# EAGLE library part 171021501 (library WPME-VDRM)
MagI³C-VDRM Variable Step Down Regulator Module Characteristics Low conducted and radiated EMI (compliant to EN55022 class B / CISPR-22) TO263-7EP Leaded package for easy manufacturing and prototyping Simple layout Wide input voltage range for input transient capability Support ambient temperatures up to + 105 °C 2 solder cycles supported QFN Low profile package Simple application circuit (only 4 external components required) Optional multiple features (adj.frequency, adj.softstart, power good, sequencing, tracking, synchronization to external clock, adjustable undervoltage lockout) Wide input voltage range QFN41 type 3 solder cycles supported Applications Point-of-Load DC-DC applications from 24V, 18V, 15V, 12V, 9V, 5V industrial rails Industrial, Test & Measurement, Medical applications System power supplies I/O interface power supply DSPs, FPGAs, MCUs and MPUs supply High density distributed power systems Telecommunication applications <https://www.we-online.com/components/media/o33388v209%20Family-MagicVDRM-171010601-171021501.jpg> Details see: www.we-online.com/en/components/products/MAGIC-VDRM <www.we-online.com/catalog/MAGIC-VDRM/?utm_source=eagle_model&utm_medium=description_link&utm_campaign=eisos_eagle> Updated by Ella 2025-04-22 2025(C) Würth Elektronik
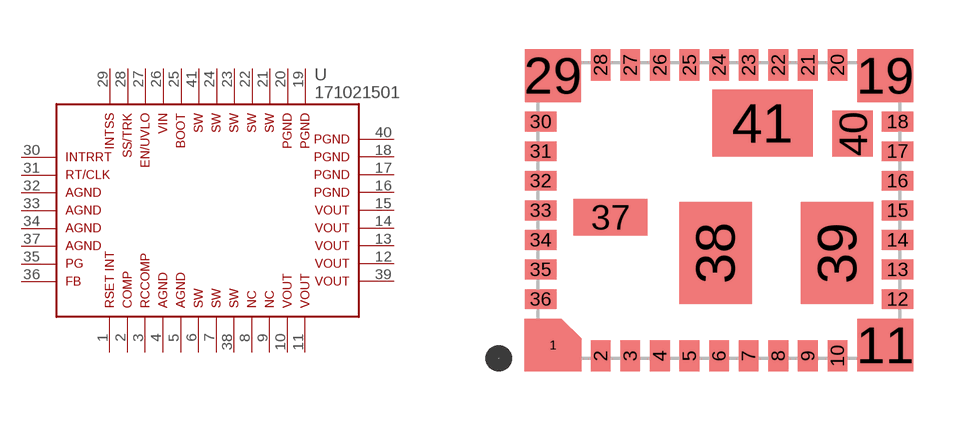
[diagram p0: symbol with the pads of WPME-VDRM_BQFN_171021501; footprint WPME-VDRM_BQFN_171021501]

Designator prefix U

## 171021501 (DATASHEET-URL: https://www.we-online.com/redexpert/spec/171021501?ae; HEIGHT: 2.85mm; I-OUTPUT: 2.5A; LENGTH: 11mm; MOUNT: SMT; PART-NUMBER: 171021501; SIZE: BQFN; V-INPUT: 7 - 50Vin; V-OUTPUT: 2.5 - 15Vout; VALUE: 7 - 50Vin, 2.5 - 15Vout, 2.5A; WIDTH: 9mm)  [WPME-VDRM_BQFN_171021501]
1  1  pas
2  2  out
3  3  pas
4  4  sup
5  5  sup
6  6  pwr
7  7  pwr
8  8  nc
9  9  nc
10  10  pwr
11  11  pwr
12  12  pwr
13  13  pwr
14  14  pwr
15  15  pwr
16  16  pwr
17  17  pwr
18  18  pwr
19  19  pwr
20  20  pwr
21  21  pwr
22  22  pwr
23  23  pwr
24  24  pwr
25  25  sup
26  26  pwr
27  27  in
28  28  in
29  29  in
30  30  pas
31  31  in
32  32  sup
33  33  sup
34  34  sup
35  35  out
36  36  in
37  37  sup
38  38  pwr
39  39  pwr
40  40  pwr
41  41  pwr

## Footprint WPME-VDRM_BQFN_171021501 (pad centres in mm)
smd 0.813 x 0.406: 1 -5.05,-4.1
smd 0.6 x 0.95: 2 -3.6,-4.425; 3 -2.7,-4.425; 4 -1.8,-4.425; 5 -0.9,-4.425; 6 0,-4.425; 7 0.9,-4.425; 8 1.8,-4.425; 9 2.7,-4.425; 10 3.6,-4.425; 20 3.6,4.425; 21 2.7,4.425; 22 1.8,4.425; 23 0.9,4.425; 24 0,4.425; 25 -0.9,4.425; 26 -1.8,4.425; 27 -2.7,4.425; 28 -3.6,4.425
smd 1.7 x 1.6: 11 5.05,-4.1; 19 5.05,4.1; 29 -5.05,4.1
smd 0.95 x 0.6: 12 5.425,-2.7; 13 5.425,-1.8; 14 5.425,-0.9; 15 5.425,0; 16 5.425,0.9; 17 5.425,1.8; 18 5.425,2.7; 30 -5.425,2.7; 31 -5.425,1.8; 32 -5.425,0.9; 33 -5.425,0; 34 -5.425,-0.9; 35 -5.425,-1.8; 36 -5.425,-2.7
smd 2.25 x 1.1: 37 -3.3,-0.21
smd 2.2 x 3.1: 38 -0.11,-1.3; 39 3.59,-1.3
smd 1.24 x 1.4: 40 4.06,2.33
smd 3.05 x 2.04: 41 1.32,2.65